# Altium integrated library ON Semi General Purpose Transistors.IntLib: 1679 symbols (part 30 of 36)
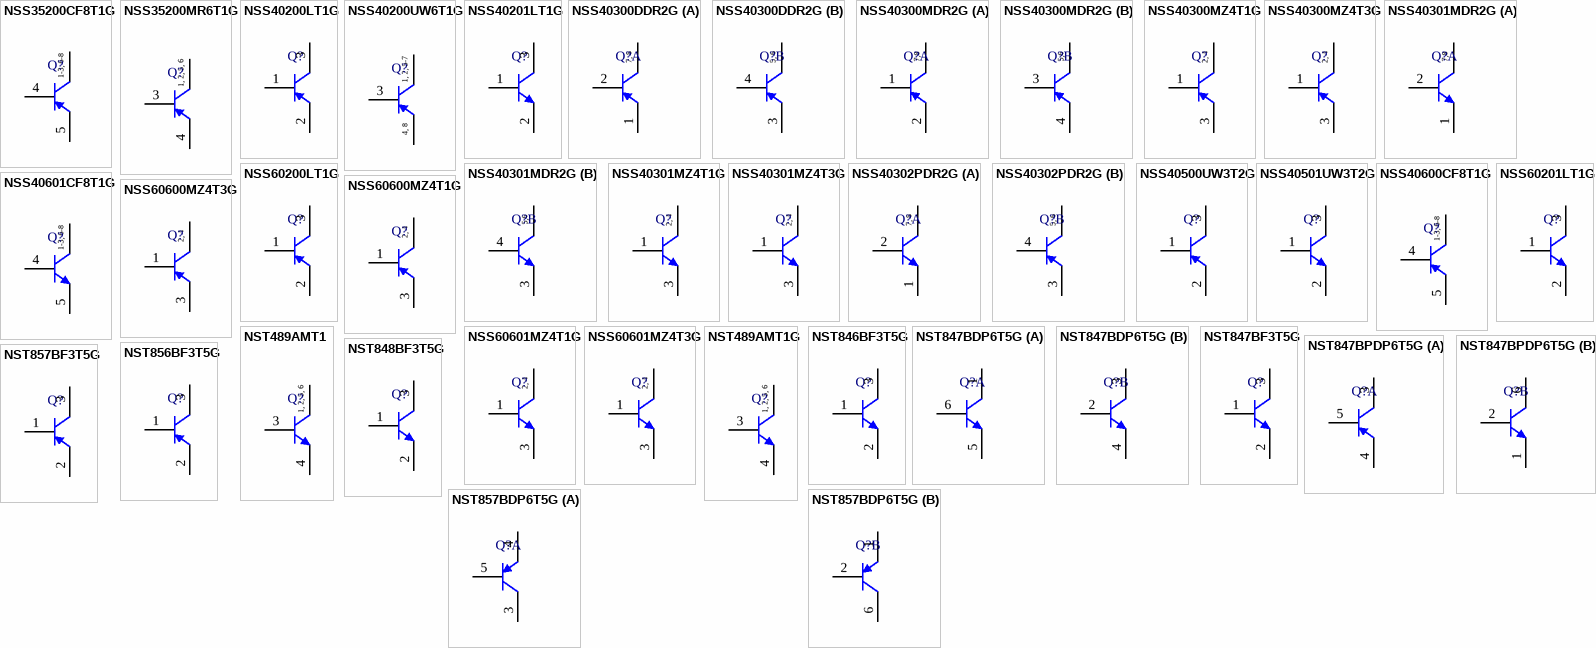
[diagram p74: symbols NSS35200CF8T1G to NST857BF3T5G]

## NSS40601CF8T1G
designator Q?
40 V, 8 A, Low VCE(sat), NPN Transistor, 8-Pin CHIPFET, Pb-Free, Tape and Reel; Manufacturer: On Semiconductor; PartNumber: NSS40601CF8T1G; fT Min (MHz): 140; IC Continuous (A): 6; DatasheetVersion: Rev. 1; PackageVersion: Rev. H, 10/2006; PackageReference: CHIPFET-8-1206A-03; PackageDescription: 8-Pin ChipFET, Body 3.025 x 1.625 mm, Pitch 0.65 mm; Supplier 1: Digi-Key; Supplier Part Number 1: NSS40601CF8T1GOSTR-ND; Supplier 2: Digi-Key; Supplier Part Number 2: NSS40601CF8T1GOSCT-ND; Supplier 3: Digi-Key; Supplier Part Number 3: NSS40601CF8T1GOSDKR-ND; Supplier 4: Newark; Supplier Part Number 4: 50M4400; Supplier 5: Mouser; Supplier Part Number 5: 863-NSS40601CF8T1G; Packing: Tape and Reel; Polarity: NPN; RoHS: TRUE; Mounting Technology: Surface Mount; ComponentLink1Description: Manufacturer URL; ComponentLink1URL: http://www.onsemi.com/; ComponentLink2Description: Datasheet; ComponentLink2URL: http://www.onsemi.com/pub_link/Collateral/NSS40601CF8-D.PDF; ComponentLink3Description: Package Specification; ComponentLink3URL: http://www.onsemi.cn/pub_link/Collateral/NSS12601CF8-D.PDF
footprint ONSC-CHIPFET-8-1206A-03_V (SON, 8-Leads, Body 3.026x1.626mm, Pitch 0.635mm)
pins: 1 C, 2 C, 3 C, 4 B, 5 E, 6 C, 7 C, 8 C
text: 1-3, 6-8

## NSS60200LT1G
designator Q?
60 V, 4 A, Low VCE(sat), PNP Transistor, 3-Pin SOT-23, Pb-Free, Tape and Reel; Manufacturer: On Semiconductor; PartNumber: NSS60200LT1G; fT Min (MHz): 100; IC Continuous (A): -2; DatasheetVersion: Rev. 1; PackageVersion: Rev. AP, 11/2009; PackageReference: SOT-23-3-318-08; PackageDescription: 3-Pin Small Outline Transistor, Body 2.92 x 1.3 mm, Pitch 0.95 mm; Supplier 1: Digi-Key; Supplier Part Number 1: NSS60200LT1GOSTR-ND; Supplier 2: Digi-Key; Supplier Part Number 2: NSS60200LT1GOSCT-ND; Supplier 3: Digi-Key; Supplier Part Number 3: NSS60200LT1GOSDKR-ND; Supplier 4: Farnell; Supplier Part Number 4: 2317570; Supplier 5: Newark; Supplier Part Number 5: 85W3180; Supplier 6: Newark; Supplier Part Number 6: 50M4401; Supplier 7: Mouser; Supplier Part Number 7: 863-NSS60200LT1G; Packing: Tape and Reel; Polarity: PNP; RoHS: TRUE; Mounting Technology: Surface Mount; ComponentLink1Description: Manufacturer URL; ComponentLink1URL: http://www.onsemi.com/; ComponentLink2Description: Datasheet; ComponentLink2URL: http://www.onsemi.com/pub_link/Collateral/NSS60200L-D.PDF; ComponentLink3Description: Package Specification; ComponentLink3URL: http://www.onsemi.cn/pub_link/Collateral/318-08.PDF
footprint ONSC-SOT-23-3-318-08_V (SOT23, 3-Leads, Body 2.92x1.3mm, Pitch 0.95mm)
pins: 1 B, 2 E, 3 C

## NSS60201LT1G
designator Q?
60 V, 4 A, Low VCE(sat), NPN Transistor, 3-Pin SOT-23, Pb-Free, Tape and Reel; Manufacturer: On Semiconductor; PartNumber: NSS60201LT1G; fT Min (MHz): 100; IC Continuous (A): 2; DatasheetVersion: Rev. 2; PackageVersion: Rev. AP, 11/2009; PackageReference: SOT-23-3-318-08; PackageDescription: 3-Pin Small Outline Transistor, Body 2.92 x 1.3 mm, Pitch 0.95 mm; Supplier 1: Digi-Key; Supplier Part Number 1: NSS60201LT1GOSTR-ND; Supplier 2: Digi-Key; Supplier Part Number 2: NSS60201LT1GOSCT-ND; Supplier 3: Digi-Key; Supplier Part Number 3: NSS60201LT1GOSDKR-ND; Supplier 4: Farnell; Supplier Part Number 4: 2317568; Supplier 5: Newark; Supplier Part Number 5: 85W3181; Supplier 6: Newark; Supplier Part Number 6: 75M5192; Supplier 7: Mouser; Supplier Part Number 7: 863-NSS60201LT1G; Packing: Tape and Reel; Polarity: NPN; RoHS: TRUE; Mounting Technology: Surface Mount; ComponentLink1Description: Manufacturer URL; ComponentLink1URL: http://www.onsemi.com/; ComponentLink2Description: Datasheet; ComponentLink2URL: http://www.onsemi.com/pub_link/Collateral/NSS60201L-D.PDF; ComponentLink3Description: Package Specification; ComponentLink3URL: http://www.onsemi.cn/pub_link/Collateral/318-08.PDF
footprint ONSC-SOT-23-3-318-08_V (SOT23, 3-Leads, Body 2.92x1.3mm, Pitch 0.95mm)
pins: 1 B, 2 E, 3 C

## NSS60600MZ4T1G
designator Q?
60 V, 6 A, Low VCE(sat), PNP Transistor, 4-Pin SOT-223, Pb-Free, Tape and Reel; Manufacturer: On Semiconductor; PartNumber: NSS60600MZ4T1G; fT Min (MHz): 100; IC Continuous (A): -6; DatasheetVersion: Rev. 4; PackageVersion: Rev. N, 08/2009; PackageReference: SOT-223-4-318E-04; PackageDescription: 4-Pin Small Outline Transistor, Body 6.5 x 3.5 mm, Pitch 2.3 mm; Supplier 1: Digi-Key; Supplier Part Number 1: NSS60600MZ4T1GOSTR-ND; Supplier 2: Digi-Key; Supplier Part Number 2: NSS60600MZ4T1GOSCT-ND; Supplier 3: Digi-Key; Supplier Part Number 3: NSS60600MZ4T1GOSDKR-ND; Supplier 4: Farnell; Supplier Part Number 4: 2317597; Supplier 5: Newark; Supplier Part Number 5: 90W9297; Supplier 6: Newark; Supplier Part Number 6: 50M4402; Supplier 7: Mouser; Supplier Part Number 7: 863-NSS60600MZ4T1G; Packing: Tape and Reel; Polarity: PNP; RoHS: TRUE; Mounting Technology: Surface Mount; ComponentLink1Description: Manufacturer URL; ComponentLink1URL: http://www.onsemi.com/; ComponentLink2Description: Datasheet; ComponentLink2URL: http://www.onsemi.com/pub_link/Collateral/NSS60600MZ4-D.PDF; ComponentLink3Description: Package Specification; ComponentLink3URL: http://www.onsemi.com/pub_link/Collateral/318E-04.PDF
footprint ONSC-SOT-223-4-318E-04_V (SOT223, 4-Leads, Body 6.5x3.5mm, Pitch 2.3mm)
pins: 1 B, 2 C, 3 E, 4 C
text: 2, 4

## NSS60600MZ4T3G
designator Q?
60 V, 6 A, Low VCE(sat), PNP Transistor, 4-Pin SOT-223, Pb-Free, Tape and Reel; Manufacturer: On Semiconductor; PartNumber: NSS60600MZ4T3G; fT Min (MHz): 100; IC Continuous (A): -6; DatasheetVersion: Rev. 4; PackageVersion: Rev. N, 08/2009; PackageReference: SOT-223-4-318E-04; PackageDescription: 4-Pin Small Outline Transistor, Body 6.5 x 3.5 mm, Pitch 2.3 mm; Supplier 1: Digi-Key; Supplier Part Number 1: NSS60600MZ4T3G-ND; Supplier 2: Mouser; Supplier Part Number 2: 863-NSS60600MZ4T3G; Packing: Tape and Reel; Polarity: PNP; RoHS: TRUE; Mounting Technology: Surface Mount; ComponentLink1Description: Manufacturer URL; ComponentLink1URL: http://www.onsemi.com/; ComponentLink2Description: Datasheet; ComponentLink2URL: http://www.onsemi.com/pub_link/Collateral/NSS60600MZ4-D.PDF; ComponentLink3Description: Package Specification; ComponentLink3URL: http://www.onsemi.com/pub_link/Collateral/318E-04.PDF
footprint ONSC-SOT-223-4-318E-04_V (SOT223, 4-Leads, Body 6.5x3.5mm, Pitch 2.3mm)
pins: 1 B, 2 C, 3 E, 4 C
text: 2, 4

## NSS60601MZ4T1G
designator Q?
60 V, 6 A, Low VCE(sat), NPN Transistor, 4-Pin SOT-223, Pb-Free, Tape and Reel; Manufacturer: On Semiconductor; PartNumber: NSS60601MZ4T1G; fT Min (MHz): 100; IC Continuous (A): 6; DatasheetVersion: Rev. 5; PackageVersion: Rev. N, 08/2009; PackageReference: SOT-223-4-318E-04; PackageDescription: 4-Pin Small Outline Transistor, Body 6.5 x 3.5 mm, Pitch 2.3 mm; Supplier 1: Digi-Key; Supplier Part Number 1: NSS60601MZ4T1GOSTR-ND; Supplier 2: Digi-Key; Supplier Part Number 2: NSS60601MZ4T1GOSCT-ND; Supplier 3: Digi-Key; Supplier Part Number 3: NSS60601MZ4T1GOSDKR-ND; Supplier 4: Newark; Supplier Part Number 4: 75M5193; Supplier 5: Mouser; Supplier Part Number 5: 863-NSS60601MZ4T1G; Packing: Tape and Reel; Polarity: NPN; RoHS: TRUE; Mounting Technology: Surface Mount; ComponentLink1Description: Manufacturer URL; ComponentLink1URL: http://www.onsemi.com/; ComponentLink2Description: Datasheet; ComponentLink2URL: http://www.onsemi.com/pub_link/Collateral/NSS60601MZ4-D.PDF; ComponentLink3Description: Package Specification; ComponentLink3URL: http://www.onsemi.com/pub_link/Collateral/318E-04.PDF
footprint ONSC-SOT-223-4-318E-04_V (SOT223, 4-Leads, Body 6.5x3.5mm, Pitch 2.3mm)
pins: 1 B, 2 C, 3 E, 4 C
text: 2, 4

## NSS60601MZ4T3G
designator Q?
60 V, 6 A, Low VCE(sat), NPN Transistor, 4-Pin SOT-223, Pb-Free, Tape and Reel; Manufacturer: On Semiconductor; PartNumber: NSS60601MZ4T3G; fT Min (MHz): 100; IC Continuous (A): 6; DatasheetVersion: Rev. 5; PackageVersion: Rev. N, 08/2009; PackageReference: SOT-223-4-318E-04; PackageDescription: 4-Pin Small Outline Transistor, Body 6.5 x 3.5 mm, Pitch 2.3 mm; Supplier 1: Digi-Key; Supplier Part Number 1: NSS60601MZ4T3G-ND; Supplier 2: Newark; Supplier Part Number 2: 75M5194; Supplier 3: Mouser; Supplier Part Number 3: 863-NSS60601MZ4T3G; Packing: Tape and Reel; Polarity: NPN; RoHS: TRUE; Mounting Technology: Surface Mount; ComponentLink1Description: Manufacturer URL; ComponentLink1URL: http://www.onsemi.com/; ComponentLink2Description: Datasheet; ComponentLink2URL: http://www.onsemi.com/pub_link/Collateral/NSS60601MZ4-D.PDF; ComponentLink3Description: Package Specification; ComponentLink3URL: http://www.onsemi.com/pub_link/Collateral/318E-04.PDF
footprint ONSC-SOT-223-4-318E-04_V (SOT223, 4-Leads, Body 6.5x3.5mm, Pitch 2.3mm)
pins: 1 B, 2 C, 3 E, 4 C
text: 2, 4

## NST489AMT1
designator Q?
High Current Surface Mount NPN Silicon Low VCE(sat), Switching Transistor for Load Management in Portable Application, 6-Pin TSOP, Tape and Reel; Manufacturer: On Semiconductor; PartNumber: NST489AMT1; fT Min (MHz): 200; IC Continuous (A): 2; DatasheetVersion: Rev. 8; PackageVersion: Rev. V, 06/2012; PackageReference: TSOP-6-318G-02; PackageDescription: 6-Pin Small Outline Package, Body 3 x 1.5 mm, Pitch 0.95 mm; Supplier 1: Digi-Key; Supplier Part Number 1: NST489AMT1-ND; Packing: Tape and Reel; Polarity: NPN; RoHS: FALSE; Mounting Technology: Surface Mount; ComponentLink1Description: Manufacturer URL; ComponentLink1URL: http://www.onsemi.com/; ComponentLink2Description: Datasheet; ComponentLink2URL: http://www.onsemi.com/pub_link/Collateral/NST489AMT1-D.PDF; ComponentLink3Description: Package Specification; ComponentLink3URL: http://www.onsemi.com/pub_link/Collateral/318G-02.PDF
footprint ONSC-TSOP-6-318G-02_V (SOP, 6-Leads, Body 3x1.5mm, Pitch 0.95mm)
pins: 1 C, 2 C, 3 B, 4 E, 5 C, 6 C
text: 1, 2, 5, 6

## NST489AMT1G
designator Q?
High Current Surface Mount NPN Silicon Low VCE(sat), Switching Transistor for Load Management in Portable Application, 6-Pin TSOP, Pb-Free, Tape and Reel; Manufacturer: On Semiconductor; PartNumber: NST489AMT1G; fT Min (MHz): 200; IC Continuous (A): 2; DatasheetVersion: Rev. 8; PackageVersion: Rev. V, 06/2012; PackageReference: TSOP-6-318G-02; PackageDescription: 6-Pin Small Outline Package, Body 3 x 1.5 mm, Pitch 0.95 mm; Supplier 1: Digi-Key; Supplier Part Number 1: NST489AMT1GOSTR-ND; Supplier 2: Digi-Key; Supplier Part Number 2: NST489AMT1GOSCT-ND; Supplier 3: Mouser; Supplier Part Number 3: 863-NST489AMT1G; Packing: Tape and Reel; Polarity: NPN; RoHS: TRUE; Mounting Technology: Surface Mount; ComponentLink1Description: Manufacturer URL; ComponentLink1URL: http://www.onsemi.com/; ComponentLink2Description: Datasheet; ComponentLink2URL: http://www.onsemi.com/pub_link/Collateral/NST489AMT1-D.PDF; ComponentLink3Description: Package Specification; ComponentLink3URL: http://www.onsemi.com/pub_link/Collateral/318G-02.PDF
footprint ONSC-TSOP-6-318G-02_V (SOP, 6-Leads, Body 3x1.5mm, Pitch 0.95mm)
pins: 1 C, 2 C, 3 B, 4 E, 5 C, 6 C
text: 1, 2, 5, 6

## NST846BF3T5G
designator Q?
NPN General Purpose Transistor, 3-Pin SOT-1123, Pb-Free, Tape and Reel; Manufacturer: On Semiconductor; PartNumber: NST846BF3T5G; fT Min (MHz): 100; IC Continuous (A): 0.1; DatasheetVersion: Rev. 1; PackageVersion: Rev. C, 11/2011; PackageReference: SOT-1123-3-524AA; PackageDescription: 3-Pin Small Outline Transistor, Body 0.8 x 0.6 mm, Pitch 0.375 mm; Supplier 1: Digi-Key; Supplier Part Number 1: NST846BF3T5G-ND; Supplier 2: Newark; Supplier Part Number 2: 05R9160; Supplier 3: Mouser; Supplier Part Number 3: 863-NST846BF3T5G; Packing: Tape and Reel; Polarity: NPN; RoHS: TRUE; Mounting Technology: Surface Mount; ComponentLink1Description: Manufacturer URL; ComponentLink1URL: http://www.onsemi.com/; ComponentLink2Description: Datasheet; ComponentLink2URL: http://www.onsemi.com/pub_link/Collateral/NST846BF3-D.PDF; ComponentLink3Description: Package Specification; ComponentLink3URL: http://www.onsemi.cn/pub_link/Collateral/524AA.PDF
footprint ONSC-SOT-1123-3-524AA_V (SOT223, 3-Leads, Body 0.8x0.6mm, Pitch 0.38mm)
pins: 1 B, 2 E, 3 C

## NST847BDP6T5G
designator Q?
Dual General Purpose Transistors, 6-Pin SOT-963, Pb-Free, Tape and Reel; Manufacturer: On Semiconductor; PartNumber: NST847BDP6T5G; fT Min (MHz): 100; IC Continuous (A): 0.1; Polarity: Dual NPN; DatasheetVersion: Rev. 0; PackageVersion: Rev. B, 04/2008; PackageReference: SOT-963-6-527AD-01_B; PackageDescription: 6-Pin SOT23, Body 1 x 0.8 mm, Pitch 0.35 mm; Supplier 1: Digi-Key; Supplier Part Number 1: NST847BDP6T5GOSTR-ND; Supplier 2: Digi-Key; Supplier Part Number 2: NST847BDP6T5GOSCT-ND; Supplier 3: Digi-Key; Supplier Part Number 3: NST847BDP6T5GOSDKR-ND; Supplier 4: Mouser; Supplier Part Number 4: 863-NST847BDP6T5G; Packing: Tape and Reel; RoHS: TRUE; Mounting Technology: Surface Mount; ComponentLink1Description: Manufacturer URL; ComponentLink1URL: http://www.onsemi.com/; ComponentLink2Description: Datasheet; ComponentLink2URL: http://www.onsemi.com/pub_link/Collateral/NST847BDP6-D.PDF; ComponentLink3Description: Package Specification; ComponentLink3URL: http://www.onsemi.com/pub_link/Collateral/NST847BDP6-D.PDF
footprint ONSC-SOT-963-6-527AD-01_B_V (SOT23, 6-Leads, Body 1.05x0.85mm, Pitch 0.35mm)
part A pins: 1 C, 5 E, 6 B
part B pins: 2 B, 3 C, 4 E

## NST847BF3T5G
designator Q?
NPN General Purpose Transistor, 3-Pin SOT-1123, Pb-Free, Tape and Reel; Manufacturer: On Semiconductor; PartNumber: NST847BF3T5G; fT Min (MHz): 100; IC Continuous (A): 0.1; DatasheetVersion: Rev. 1; PackageVersion: Rev. C, 11/2011; PackageReference: SOT-1123-3-524AA; PackageDescription: 3-Pin Small Outline Transistor, Body 0.8 x 0.6 mm, Pitch 0.375 mm; Supplier 1: Digi-Key; Supplier Part Number 1: NST847BF3T5GOSTR-ND; Supplier 2: Digi-Key; Supplier Part Number 2: NST847BF3T5GOSCT-ND; Supplier 3: Digi-Key; Supplier Part Number 3: NST847BF3T5GOSDKR-ND; Supplier 4: Mouser; Supplier Part Number 4: 863-NST847BF3T5G; Packing: Tape and Reel; Polarity: NPN; RoHS: TRUE; Mounting Technology: Surface Mount; ComponentLink1Description: Manufacturer URL; ComponentLink1URL: http://www.onsemi.com/; ComponentLink2Description: Datasheet; ComponentLink2URL: http://www.onsemi.com/pub_link/Collateral/NST847BF3-D.PDF; ComponentLink3Description: Package Specification; ComponentLink3URL: http://www.onsemi.cn/pub_link/Collateral/524AA.PDF
footprint ONSC-SOT-1123-3-524AA_V (SOT223, 3-Leads, Body 0.8x0.6mm, Pitch 0.38mm)
pins: 1 B, 2 E, 3 C

## NST847BPDP6T5G
designator Q?
Dual Complementary General Purpose Transistors, 6-Pin SOT-963, Pb-Free, Tape and Reel; Manufacturer: On Semiconductor; PartNumber: NST847BPDP6T5G; fT Min (MHz): 100; IC Continuous (A): 0.1; DatasheetVersion: Rev. 0; PackageVersion: Rev. B, 04/2008; PackageReference: SOT-963-6-527AD-01_B; PackageDescription: 6-Pin SOT23, Body 1 x 0.8 mm, Pitch 0.35 mm; Supplier 1: Digi-Key; Supplier Part Number 1: NST847BPDP6T5G-ND; Supplier 2: Newark; Supplier Part Number 2: 01P5117; Supplier 3: Mouser; Supplier Part Number 3: 863-NST847BPDP6T5G; Packing: Tape and Reel; Polarity: Complementary; RoHS: TRUE; Mounting Technology: Surface Mount; ComponentLink1Description: Manufacturer URL; ComponentLink1URL: http://www.onsemi.com/; ComponentLink2Description: Datasheet; ComponentLink2URL: http://www.onsemi.com/pub_link/Collateral/NST847BPDP6-D.PDF; ComponentLink3Description: Package Specification; ComponentLink3URL: http://www.onsemi.com/pub_link/Collateral/NST847BDP6-D.PDF
footprint ONSC-SOT-963-6-527AD-01_B_V (SOT23, 6-Leads, Body 1.05x0.85mm, Pitch 0.35mm)
part A pins: 3 C, 4 E, 5 B
part B pins: 1 E, 2 B, 6 C

## NST848BF3T5G
designator Q?
NPN General Purpose Transistor, 3-Pin SOT-1123, Pb-Free, Tape and Reel; Manufacturer: On Semiconductor; PartNumber: NST848BF3T5G; fT Min (MHz): 100; IC Continuous (A): 0.1; DatasheetVersion: Rev. 1; PackageVersion: Rev. C, 11/2011; PackageReference: SOT-1123-3-524AA; PackageDescription: 3-Pin Small Outline Transistor, Body 0.8 x 0.6 mm, Pitch 0.375 mm; Supplier 1: Digi-Key; Supplier Part Number 1: NST848BF3T5G-ND; Supplier 2: Newark; Supplier Part Number 2: 05R9161; Supplier 3: Mouser; Supplier Part Number 3: 863-NST848BF3T5G; Packing: Tape and Reel; Polarity: NPN; RoHS: TRUE; Mounting Technology: Surface Mount; ComponentLink1Description: Manufacturer URL; ComponentLink1URL: http://www.onsemi.com/; ComponentLink2Description: Datasheet; ComponentLink2URL: http://www.onsemi.com/pub_link/Collateral/NST848BF3-D.PDF; ComponentLink3Description: Package Specification; ComponentLink3URL: http://www.onsemi.cn/pub_link/Collateral/524AA.PDF
footprint ONSC-SOT-1123-3-524AA_V (SOT223, 3-Leads, Body 0.8x0.6mm, Pitch 0.38mm)
pins: 1 B, 2 E, 3 C

## NST856BF3T5G
designator Q?
PNP General Purpose Transistor, 3-Pin SOT-1123, Pb-Free, Tape and Reel; Manufacturer: On Semiconductor; PartNumber: NST856BF3T5G; fT Min (MHz): 100; IC Continuous (A): -0.1; DatasheetVersion: Rev. 1; PackageVersion: Rev. C, 11/2011; PackageReference: SOT-1123-3-524AA; PackageDescription: 3-Pin Small Outline Transistor, Body 0.8 x 0.6 mm, Pitch 0.375 mm; Supplier 1: Digi-Key; Supplier Part Number 1: NST856BF3T5G-ND; Supplier 2: Mouser; Supplier Part Number 2: 863-NST856BF3T5G; Packing: Tape and Reel; Polarity: PNP; RoHS: TRUE; Mounting Technology: Surface Mount; ComponentLink1Description: Manufacturer URL; ComponentLink1URL: http://www.onsemi.com/; ComponentLink2Description: Datasheet; ComponentLink2URL: http://www.onsemi.com/pub_link/Collateral/NST856BF3-D.PDF; ComponentLink3Description: Package Specification; ComponentLink3URL: http://www.onsemi.cn/pub_link/Collateral/524AA.PDF
footprint ONSC-SOT-1123-3-524AA_V (SOT223, 3-Leads, Body 0.8x0.6mm, Pitch 0.38mm)
pins: 1 B, 2 E, 3 C

## NST857BDP6T5G
designator Q?
Dual General Purpose Transistors, 6-Pin SOT-963, Pb-Free, Tape and Reel; Manufacturer: On Semiconductor; PartNumber: NST857BDP6T5G; fT Min (MHz): 100; IC Continuous (A): -0.1; Polarity: Dual PNP; DatasheetVersion: Rev. 0; PackageVersion: Rev. B, 04/2008; PackageReference: SOT-963-6-527AD-01_B; PackageDescription: 6-Pin SOT23, Body 1 x 0.8 mm, Pitch 0.35 mm; Supplier 1: Digi-Key; Supplier Part Number 1: NST857BDP6T5G-ND; Supplier 2: Newark; Supplier Part Number 2: 01P5118; Supplier 3: Mouser; Supplier Part Number 3: 863-NST857BDP6T5G; Packing: Tape and Reel; RoHS: TRUE; Mounting Technology: Surface Mount; ComponentLink1Description: Manufacturer URL; ComponentLink1URL: http://www.onsemi.com/; ComponentLink2Description: Datasheet; ComponentLink2URL: http://www.onsemi.com/pub_link/Collateral/NST857BDP6-D.PDF; ComponentLink3Description: Package Specification; ComponentLink3URL: http://www.onsemi.com/pub_link/Collateral/NST847BDP6-D.PDF
footprint ONSC-SOT-963-6-527AD-01_B_V (SOT23, 6-Leads, Body 1.05x0.85mm, Pitch 0.35mm)
part A pins: 3 C, 4 E, 5 B
part B pins: 1 E, 2 B, 6 C

## NST857BF3T5G
designator Q?
PNP General Purpose Transistor, 3-Pin SOT-1123, Pb-Free, Tape and Reel; Manufacturer: On Semiconductor; PartNumber: NST857BF3T5G; fT Min (MHz): 100; IC Continuous (A): -0.1; DatasheetVersion: Rev. 1; PackageVersion: Rev. C, 11/2011; PackageReference: SOT-1123-3-524AA; PackageDescription: 3-Pin Small Outline Transistor, Body 0.8 x 0.6 mm, Pitch 0.375 mm; Supplier 1: Digi-Key; Supplier Part Number 1: NST857BF3T5G-ND; Supplier 2: Mouser; Supplier Part Number 2: 863-NST857BF3T5G; Packing: Tape and Reel; Polarity: PNP; RoHS: TRUE; Mounting Technology: Surface Mount; ComponentLink1Description: Manufacturer URL; ComponentLink1URL: http://www.onsemi.com/; ComponentLink2Description: Datasheet; ComponentLink2URL: http://www.onsemi.com/pub_link/Collateral/NST857BF3-D.PDF; ComponentLink3Description: Package Specification; ComponentLink3URL: http://www.onsemi.cn/pub_link/Collateral/524AA.PDF
footprint ONSC-SOT-1123-3-524AA_V (SOT223, 3-Leads, Body 0.8x0.6mm, Pitch 0.38mm)
pins: 1 B, 2 E, 3 C

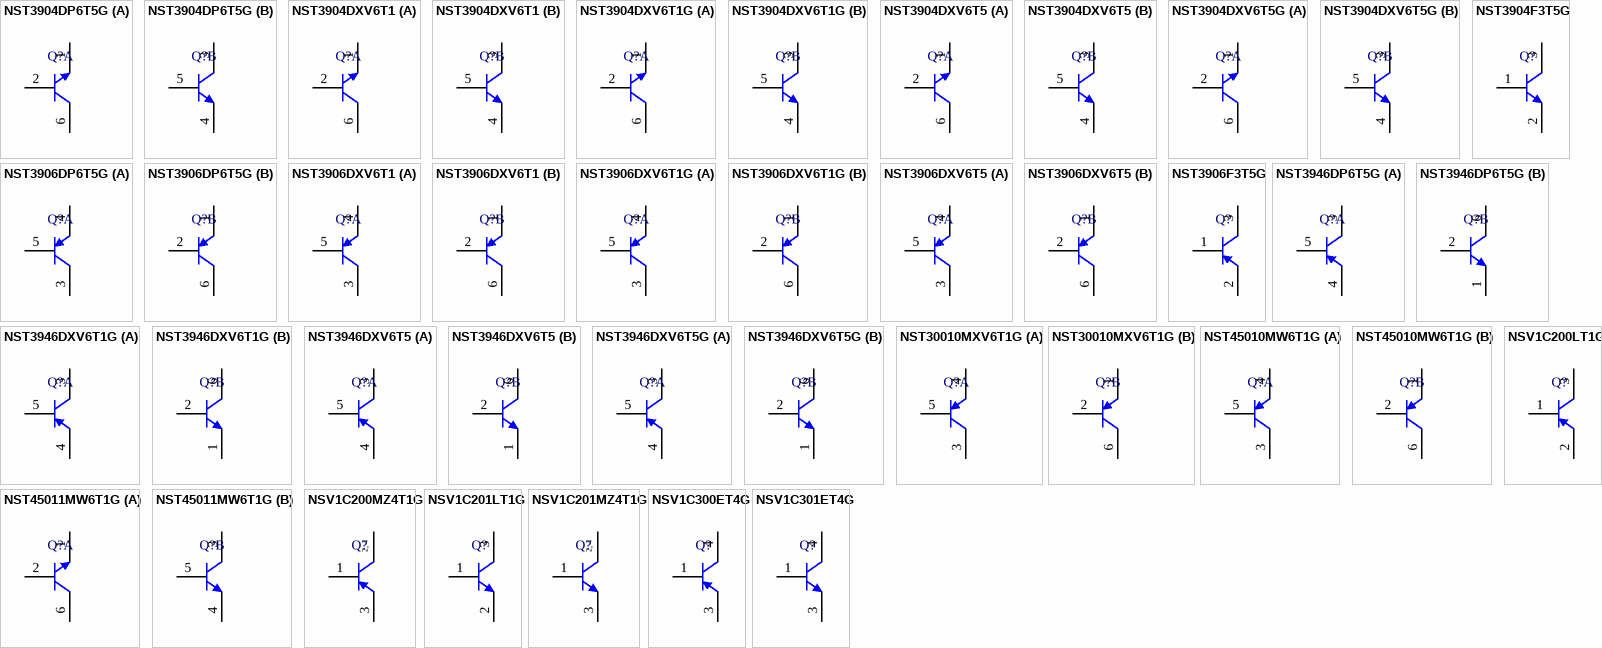
[diagram p37: symbols NST3904DP6T5G to NSV1C301ET4G]

## NST3904DP6T5G
designator Q?
Dual General Purpose Transistors, 6-Pin SOT-963, Pb-Free, Tape and Reel; Manufacturer: On Semiconductor; PartNumber: NST3904DP6T5G; fT Min (MHz): 200; IC Continuous (A): 0.2; Polarity: Dual NPN; DatasheetVersion: Rev. 0; PackageVersion: Rev. B, 04/2008; PackageReference: SOT-963-6-527AD-01_B; PackageDescription: 6-Pin SOT23, Body 1 x 0.8 mm, Pitch 0.35 mm; Supplier 1: Digi-Key; Supplier Part Number 1: NST3904DP6T5GOSTR-ND; Supplier 2: Digi-Key; Supplier Part Number 2: NST3904DP6T5GOSCT-ND; Supplier 3: Digi-Key; Supplier Part Number 3: NST3904DP6T5GOSDKR-ND; Supplier 4: Farnell; Supplier Part Number 4: 2317635; Supplier 5: Newark; Supplier Part Number 5: 73P9692; Supplier 6: Newark; Supplier Part Number 6: 01P5109; Supplier 7: Mouser; Supplier Part Number 7: 863-NST3904DP6T5G; Packing: Tape and Reel; RoHS: TRUE; Mounting Technology: Surface Mount; ComponentLink1Description: Manufacturer URL; ComponentLink1URL: http://www.onsemi.com/; ComponentLink2Description: Datasheet; ComponentLink2URL: http://www.onsemi.com/pub_link/Collateral/NST3904DP6-D.PDF; ComponentLink3Description: Package Specification; ComponentLink3URL: http://www.onsemi.com/pub_link/Collateral/NST847BDP6-D.PDF
footprint ONSC-SOT-963-6-527AD-01_B_V (SOT23, 6-Leads, Body 1.05x0.85mm, Pitch 0.35mm)
part A pins: 1 E, 2 B, 6 C
part B pins: 3 C, 4 E, 5 B

## NST3904DXV6T1
designator Q?
Dual General Purpose Transistors, 6-Pin SOT-563, Pb-Free, Tape and Reel; Manufacturer: On Semiconductor; PartNumber: NST3904DXV6T1; fT Min (MHz): 300; IC Continuous (A): 0.2; Polarity: Dual NPN; DatasheetVersion: Rev. 5; PackageVersion: Rev. F, 04/2005; PackageReference: SOT-563-6-463A-01; PackageDescription: 6-Pin Small Outline Transistor, Body 1.6 x 1.2 mm, Pitch 0.5 mm; Supplier 1: Mouser; Supplier Part Number 1: 863-NST3904DXV6T1; Packing: Tape and Reel; RoHS: TRUE; Mounting Technology: Surface Mount; ComponentLink1Description: Manufacturer URL; ComponentLink1URL: http://www.onsemi.com/; ComponentLink2Description: Datasheet; ComponentLink2URL: http://www.onsemi.com/pub_link/Collateral/NST3904DXV6T1-D.PDF; ComponentLink3Description: Package Specification; ComponentLink3URL: http://www.onsemi.cn/pub_link/Collateral/463A-01.PDF
footprint ONSC-SOT-563-6-463A-01_V (SOT23, 6-Leads, Body 1.6x1.2mm, Pitch 0.5mm)
part A pins: 1 E, 2 B, 6 C
part B pins: 3 C, 4 E, 5 B

## NST3904DXV6T1G
designator Q?
Dual General Purpose Transistors, 6-Pin SOT-563, Pb-Free, Tape and Reel; Manufacturer: On Semiconductor; PartNumber: NST3904DXV6T1G; fT Min (MHz): 300; IC Continuous (A): 0.2; Polarity: Dual NPN; DatasheetVersion: Rev. 5; PackageVersion: Rev. F, 04/2005; PackageReference: SOT-563-6-463A-01; PackageDescription: 6-Pin Small Outline Transistor, Body 1.6 x 1.2 mm, Pitch 0.5 mm; Supplier 1: Digi-Key; Supplier Part Number 1: NST3904DXV6T1GOSTR-ND; Supplier 2: Digi-Key; Supplier Part Number 2: NST3904DXV6T1GOSCT-ND; Supplier 3: Digi-Key; Supplier Part Number 3: NST3904DXV6T1GOSDKR-ND; Supplier 4: Newark; Supplier Part Number 4: 10N9564; Supplier 5: Newark; Supplier Part Number 5: 42K2376; Supplier 6: Mouser; Supplier Part Number 6: 863-NST3904DXV6T1G; Packing: Tape and Reel; RoHS: TRUE; Mounting Technology: Surface Mount; ComponentLink1Description: Manufacturer URL; ComponentLink1URL: http://www.onsemi.com/; ComponentLink2Description: Datasheet; ComponentLink2URL: http://www.onsemi.com/pub_link/Collateral/NST3904DXV6T1-D.PDF; ComponentLink3Description: Package Specification; ComponentLink3URL: http://www.onsemi.cn/pub_link/Collateral/463A-01.PDF
footprint ONSC-SOT-563-6-463A-01_V (SOT23, 6-Leads, Body 1.6x1.2mm, Pitch 0.5mm)
part A pins: 1 E, 2 B, 6 C
part B pins: 3 C, 4 E, 5 B

## NST3904DXV6T5
designator Q?
Dual General Purpose Transistors, 6-Pin SOT-563, Pb-Free, Tape and Reel; Manufacturer: On Semiconductor; PartNumber: NST3904DXV6T5; fT Min (MHz): 300; IC Continuous (A): 0.2; Polarity: Dual NPN; DatasheetVersion: Rev. 5; PackageVersion: Rev. F, 04/2005; PackageReference: SOT-563-6-463A-01; PackageDescription: 6-Pin Small Outline Transistor, Body 1.6 x 1.2 mm, Pitch 0.5 mm; Supplier 1: Digi-Key; Supplier Part Number 1: NST3904DXV6T5OS-ND; Supplier 2: Mouser; Supplier Part Number 2: 863-NST3904DXV6T5; Packing: Tape and Reel; RoHS: TRUE; Mounting Technology: Surface Mount; ComponentLink1Description: Manufacturer URL; ComponentLink1URL: http://www.onsemi.com/; ComponentLink2Description: Datasheet; ComponentLink2URL: http://www.onsemi.com/pub_link/Collateral/NST3904DXV6T1-D.PDF; ComponentLink3Description: Package Specification; ComponentLink3URL: http://www.onsemi.cn/pub_link/Collateral/463A-01.PDF
footprint ONSC-SOT-563-6-463A-01_V (SOT23, 6-Leads, Body 1.6x1.2mm, Pitch 0.5mm)
part A pins: 1 E, 2 B, 6 C
part B pins: 3 C, 4 E, 5 B

## NST3904DXV6T5G
designator Q?
Dual General Purpose Transistors, 6-Pin SOT-563, Pb-Free, Tape and Reel; Manufacturer: On Semiconductor; PartNumber: NST3904DXV6T5G; fT Min (MHz): 300; IC Continuous (A): 0.2; Polarity: Dual NPN; DatasheetVersion: Rev. 5; PackageVersion: Rev. F, 04/2005; PackageReference: SOT-563-6-463A-01; PackageDescription: 6-Pin Small Outline Transistor, Body 1.6 x 1.2 mm, Pitch 0.5 mm; Supplier 1: Digi-Key; Supplier Part Number 1: NST3904DXV6T5GOSTR-ND; Supplier 2: Digi-Key; Supplier Part Number 2: NST3904DXV6T5GOSCT-ND; Supplier 3: Mouser; Supplier Part Number 3: 863-NST3904DXV6T5G; Packing: Tape and Reel; RoHS: TRUE; Mounting Technology: Surface Mount; ComponentLink1Description: Manufacturer URL; ComponentLink1URL: http://www.onsemi.com/; ComponentLink2Description: Datasheet; ComponentLink2URL: http://www.onsemi.com/pub_link/Collateral/NST3904DXV6T1-D.PDF; ComponentLink3Description: Package Specification; ComponentLink3URL: http://www.onsemi.cn/pub_link/Collateral/463A-01.PDF
footprint ONSC-SOT-563-6-463A-01_V (SOT23, 6-Leads, Body 1.6x1.2mm, Pitch 0.5mm)
part A pins: 1 E, 2 B, 6 C
part B pins: 3 C, 4 E, 5 B

## NST3904F3T5G
designator Q?
NPN General Purpose Transistor, 3-Pin SOT-1123, Pb-Free, Tape and Reel; Manufacturer: On Semiconductor; PartNumber: NST3904F3T5G; fT Min (MHz): 200; IC Continuous (A): 0.2; DatasheetVersion: Rev. 1; PackageVersion: Rev. C, 11/2011; PackageReference: SOT-1123-3-524AA; PackageDescription: 3-Pin Small Outline Transistor, Body 0.8 x 0.6 mm, Pitch 0.375 mm; Supplier 1: Digi-Key; Supplier Part Number 1: NST3904F3T5GOSTR-ND; Supplier 2: Digi-Key; Supplier Part Number 2: NST3904F3T5GOSCT-ND; Supplier 3: Digi-Key; Supplier Part Number 3: NST3904F3T5GOSDKR-ND; Supplier 4: Farnell; Supplier Part Number 4: 2317544; Supplier 5: Newark; Supplier Part Number 5: 73P9693; Supplier 6: Newark; Supplier Part Number 6: 01P5110; Supplier 7: Mouser; Supplier Part Number 7: 863-NST3904F3T5G; Packing: Tape and Reel; Polarity: NPN; RoHS: TRUE; Mounting Technology: Surface Mount; ComponentLink1Description: Manufacturer URL; ComponentLink1URL: http://www.onsemi.com/; ComponentLink2Description: Datasheet; ComponentLink2URL: http://www.onsemi.com/pub_link/Collateral/NST3904F3-D.PDF; ComponentLink3Description: Package Specification; ComponentLink3URL: http://www.onsemi.cn/pub_link/Collateral/524AA.PDF
footprint ONSC-SOT-1123-3-524AA_V (SOT223, 3-Leads, Body 0.8x0.6mm, Pitch 0.38mm)
pins: 1 B, 2 E, 3 C

## NST3906DP6T5G
designator Q?
Dual General Purpose Transistors, 6-Pin SOT-963, Pb-Free, Tape and Reel; Manufacturer: On Semiconductor; PartNumber: NST3906DP6T5G; fT Min (MHz): 250; IC Continuous (A): -0.2; Polarity: Dual PNP; DatasheetVersion: Rev. 0; PackageVersion: Rev. B, 04/2008; PackageReference: SOT-963-6-527AD-01_B; PackageDescription: 6-Pin SOT23, Body 1 x 0.8 mm, Pitch 0.35 mm; Supplier 1: Digi-Key; Supplier Part Number 1: NST3906DP6T5GOSTR-ND; Supplier 2: Digi-Key; Supplier Part Number 2: NST3906DP6T5GOSCT-ND; Supplier 3: Digi-Key; Supplier Part Number 3: NST3906DP6T5GOSDKR-ND; Supplier 4: Newark; Supplier Part Number 4: 01P5111; Supplier 5: Mouser; Supplier Part Number 5: 863-NST3906DP6T5G; Packing: Tape and Reel; RoHS: TRUE; Mounting Technology: Surface Mount; ComponentLink1Description: Manufacturer URL; ComponentLink1URL: http://www.onsemi.com/; ComponentLink2Description: Datasheet; ComponentLink2URL: http://www.onsemi.com/pub_link/Collateral/NST3906DP6-D.PDF; ComponentLink3Description: Package Specification; ComponentLink3URL: http://www.onsemi.com/pub_link/Collateral/NST847BDP6-D.PDF
footprint ONSC-SOT-963-6-527AD-01_B_V (SOT23, 6-Leads, Body 1.05x0.85mm, Pitch 0.35mm)
part A pins: 3 C, 4 E, 5 B
part B pins: 1 E, 2 B, 6 C

## NST3906DXV6T1
designator Q?
Dual General Purpose Transistors, 6-Pin SOT-563, Pb-Free, Tape and Reel; Manufacturer: On Semiconductor; PartNumber: NST3906DXV6T1; fT Min (MHz): 250; IC Continuous (A): -0.2; Polarity: Dual PNP; DatasheetVersion: Rev. 0; PackageVersion: Rev. O; PackageReference: SOT-563-6-463A-01_O; PackageDescription: 6-Pin SOT23, Body 1.2 x 1.6 mm, Pitch 0.5 mm; Supplier 1: Digi-Key; Supplier Part Number 1: NST3906DXV6T1OS-ND; Supplier 2: Mouser; Supplier Part Number 2: 863-NST3906DXV6T1; Packing: Tape and Reel; RoHS: TRUE; Mounting Technology: Surface Mount; ComponentLink1Description: Manufacturer URL; ComponentLink1URL: http://www.onsemi.com/; ComponentLink2Description: Datasheet; ComponentLink2URL: http://www.onsemi.com/pub_link/Collateral/NST3906DXV6T1-D.PDF; ComponentLink3Description: Package Specification; ComponentLink3URL: http://www.onsemi.com/pub_link/Collateral/NST3906DXV6T1-D.PDF
footprint ONSC-SOT-563-6-463A-01_O_V (SOT23, 6-Leads, Body 1.6x1.2mm, Pitch 0.5mm)
part A pins: 3 C, 4 E, 5 B
part B pins: 1 E, 2 B, 6 C

## NST3906DXV6T1G
designator Q?
Dual General Purpose Transistors, 6-Pin SOT-563, Pb-Free, Tape and Reel; Manufacturer: On Semiconductor; PartNumber: NST3906DXV6T1G; fT Min (MHz): 250; IC Continuous (A): -0.2; Polarity: Dual PNP; DatasheetVersion: Rev. 0; PackageVersion: Rev. O; PackageReference: SOT-563-6-463A-01_O; PackageDescription: 6-Pin SOT23, Body 1.2 x 1.6 mm, Pitch 0.5 mm; Supplier 1: Digi-Key; Supplier Part Number 1: NST3906DXV6T1GOSTR-ND; Supplier 2: Digi-Key; Supplier Part Number 2: NST3906DXV6T1GOSCT-ND; Supplier 3: Newark; Supplier Part Number 3: 42K2378; Supplier 4: Mouser; Supplier Part Number 4: 863-NST3906DXV6T1G; Packing: Tape and Reel; RoHS: TRUE; Mounting Technology: Surface Mount; ComponentLink1Description: Manufacturer URL; ComponentLink1URL: http://www.onsemi.com/; ComponentLink2Description: Datasheet; ComponentLink2URL: http://www.onsemi.com/pub_link/Collateral/NST3906DXV6T1-D.PDF; ComponentLink3Description: Package Specification; ComponentLink3URL: http://www.onsemi.com/pub_link/Collateral/NST3906DXV6T1-D.PDF
footprint ONSC-SOT-563-6-463A-01_O_V (SOT23, 6-Leads, Body 1.6x1.2mm, Pitch 0.5mm)
part A pins: 3 C, 4 E, 5 B
part B pins: 1 E, 2 B, 6 C

## NST3906DXV6T5
designator Q?
Dual General Purpose Transistors, 6-Pin SOT-563, Pb-Free, Tape and Reel; Manufacturer: On Semiconductor; PartNumber: NST3906DXV6T5; fT Min (MHz): 250; IC Continuous (A): -0.2; Polarity: Dual PNP; DatasheetVersion: Rev. 0; PackageVersion: Rev. O; PackageReference: SOT-563-6-463A-01_O; PackageDescription: 6-Pin SOT23, Body 1.2 x 1.6 mm, Pitch 0.5 mm; Supplier 1: Mouser; Supplier Part Number 1: 863-NST3906DXV6T5; Packing: Tape and Reel; RoHS: TRUE; Mounting Technology: Surface Mount; ComponentLink1Description: Manufacturer URL; ComponentLink1URL: http://www.onsemi.com/; ComponentLink2Description: Datasheet; ComponentLink2URL: http://www.onsemi.com/pub_link/Collateral/NST3906DXV6T1-D.PDF; ComponentLink3Description: Package Specification; ComponentLink3URL: http://www.onsemi.com/pub_link/Collateral/NST3906DXV6T1-D.PDF
footprint ONSC-SOT-563-6-463A-01_O_V (SOT23, 6-Leads, Body 1.6x1.2mm, Pitch 0.5mm)
part A pins: 3 C, 4 E, 5 B
part B pins: 1 E, 2 B, 6 C

## NST3906F3T5G
designator Q?
PNP General Purpose Transistor, 3-Pin SOT-1123, Pb-Free, Tape and Reel; Manufacturer: On Semiconductor; PartNumber: NST3906F3T5G; fT Min (MHz): 250; IC Continuous (A): -0.2; DatasheetVersion: Rev. 1; PackageVersion: Rev. C, 11/2011; PackageReference: SOT-1123-3-524AA; PackageDescription: 3-Pin Small Outline Transistor, Body 0.8 x 0.6 mm, Pitch 0.375 mm; Supplier 1: Digi-Key; Supplier Part Number 1: NST3906F3T5GOSTR-ND; Supplier 2: Digi-Key; Supplier Part Number 2: NST3906F3T5GOSCT-ND; Supplier 3: Digi-Key; Supplier Part Number 3: NST3906F3T5GOSDKR-ND; Supplier 4: Newark; Supplier Part Number 4: 01P5112; Supplier 5: Mouser; Supplier Part Number 5: 863-NST3906F3T5G; Packing: Tape and Reel; Polarity: PNP; RoHS: TRUE; Mounting Technology: Surface Mount; ComponentLink1Description: Manufacturer URL; ComponentLink1URL: http://www.onsemi.com/; ComponentLink2Description: Datasheet; ComponentLink2URL: http://www.onsemi.com/pub_link/Collateral/NST3906F3-D.PDF; ComponentLink3Description: Package Specification; ComponentLink3URL: http://www.onsemi.cn/pub_link/Collateral/524AA.PDF
footprint ONSC-SOT-1123-3-524AA_V (SOT223, 3-Leads, Body 0.8x0.6mm, Pitch 0.38mm)
pins: 1 B, 2 E, 3 C

## NST3946DP6T5G
designator Q?
Dual Complementary General Purpose Transistors, 6-Pin SOT-963, Pb-Free, Tape and Reel; Manufacturer: On Semiconductor; PartNumber: NST3946DP6T5G; IC Continuous (A): 0.2; DatasheetVersion: Rev. 1; PackageVersion: Rev. B, 04/2008; PackageReference: SOT-963-6-527AD-01_B; PackageDescription: 6-Pin SOT23, Body 1 x 0.8 mm, Pitch 0.35 mm; Supplier 1: Digi-Key; Supplier Part Number 1: NST3946DP6T5G-ND; Supplier 2: Mouser; Supplier Part Number 2: 863-NST3946DP6T5G; Packing: Tape and Reel; Polarity: Complementary; RoHS: TRUE; Mounting Technology: Surface Mount; ComponentLink1Description: Manufacturer URL; ComponentLink1URL: http://www.onsemi.com/; ComponentLink2Description: Datasheet; ComponentLink2URL: http://www.onsemi.com/pub_link/Collateral/NST3946DP6-D.PDF; ComponentLink3Description: Package Specification; ComponentLink3URL: http://www.onsemi.com/pub_link/Collateral/NST847BDP6-D.PDF
footprint ONSC-SOT-963-6-527AD-01_B_V (SOT23, 6-Leads, Body 1.05x0.85mm, Pitch 0.35mm)
part A pins: 3 C, 4 E, 5 B
part B pins: 1 E, 2 B, 6 C

## NST3946DXV6T1G
designator Q?
Complementary General Purpose Transistors, 6-Pin SOT-563, Pb-Free, Tape and Reel; Manufacturer: On Semiconductor; PartNumber: NST3946DXV6T1G; IC Continuous (A): 0.2; DatasheetVersion: Rev. 2; PackageVersion: Rev. F, 04/2005; PackageReference: SOT-563-6-463A-01; PackageDescription: 6-Pin Small Outline Transistor, Body 1.6 x 1.2 mm, Pitch 0.5 mm; Supplier 1: Digi-Key; Supplier Part Number 1: NST3946DXV6T1GOSTR-ND; Supplier 2: Digi-Key; Supplier Part Number 2: NST3946DXV6T1GOSCT-ND; Supplier 3: Digi-Key; Supplier Part Number 3: NST3946DXV6T1GOSDKR-ND; Supplier 4: Mouser; Supplier Part Number 4: 863-NST3946DXV6T1G; Packing: Tape and Reel; Polarity: Complementary; RoHS: TRUE; Mounting Technology: Surface Mount; ComponentLink1Description: Manufacturer URL; ComponentLink1URL: http://www.onsemi.com/; ComponentLink2Description: Datasheet; ComponentLink2URL: http://www.onsemi.com/pub_link/Collateral/NST3946DXV6T1-D.PDF; ComponentLink3Description: Package Specification; ComponentLink3URL: http://www.onsemi.cn/pub_link/Collateral/463A-01.PDF
footprint ONSC-SOT-563-6-463A-01_V (SOT23, 6-Leads, Body 1.6x1.2mm, Pitch 0.5mm)
part A pins: 3 C, 4 E, 5 B
part B pins: 1 E, 2 B, 6 C

## NST3946DXV6T5
designator Q?
Complementary General Purpose Transistors, 6-Pin SOT-563, Pb-Free, Tape and Reel; Manufacturer: On Semiconductor; PartNumber: NST3946DXV6T5; IC Continuous (A): 0.2; DatasheetVersion: Rev. 2; PackageVersion: Rev. F, 04/2005; PackageReference: SOT-563-6-463A-01; PackageDescription: 6-Pin Small Outline Transistor, Body 1.6 x 1.2 mm, Pitch 0.5 mm; Supplier 1: Digi-Key; Supplier Part Number 1: NST3946DXV6T5OS-ND; Supplier 2: Mouser; Supplier Part Number 2: 863-NST3946DXV6T5; Packing: Tape and Reel; Polarity: Complementary; RoHS: TRUE; Mounting Technology: Surface Mount; ComponentLink1Description: Manufacturer URL; ComponentLink1URL: http://www.onsemi.com/; ComponentLink2Description: Datasheet; ComponentLink2URL: http://www.onsemi.com/pub_link/Collateral/NST3946DXV6T1-D.PDF; ComponentLink3Description: Package Specification; ComponentLink3URL: http://www.onsemi.cn/pub_link/Collateral/463A-01.PDF
footprint ONSC-SOT-563-6-463A-01_V (SOT23, 6-Leads, Body 1.6x1.2mm, Pitch 0.5mm)
part A pins: 3 C, 4 E, 5 B
part B pins: 1 E, 2 B, 6 C

## NST3946DXV6T5G
designator Q?
Complementary General Purpose Transistors, 6-Pin SOT-563, Pb-Free, Tape and Reel; Manufacturer: On Semiconductor; PartNumber: NST3946DXV6T5G; IC Continuous (A): 0.2; DatasheetVersion: Rev. 2; PackageVersion: Rev. F, 04/2005; PackageReference: SOT-563-6-463A-01; PackageDescription: 6-Pin Small Outline Transistor, Body 1.6 x 1.2 mm, Pitch 0.5 mm; Supplier 1: Digi-Key; Supplier Part Number 1: NST3946DXV6T5GOSTR-ND; Supplier 2: Digi-Key; Supplier Part Number 2: NST3946DXV6T5GOSCT-ND; Supplier 3: Mouser; Supplier Part Number 3: 863-NST3946DXV6T5G; Packing: Tape and Reel; Polarity: Complementary; RoHS: TRUE; Mounting Technology: Surface Mount; ComponentLink1Description: Manufacturer URL; ComponentLink1URL: http://www.onsemi.com/; ComponentLink2Description: Datasheet; ComponentLink2URL: http://www.onsemi.com/pub_link/Collateral/NST3946DXV6T1-D.PDF; ComponentLink3Description: Package Specification; ComponentLink3URL: http://www.onsemi.cn/pub_link/Collateral/463A-01.PDF
footprint ONSC-SOT-563-6-463A-01_V (SOT23, 6-Leads, Body 1.6x1.2mm, Pitch 0.5mm)
part A pins: 3 C, 4 E, 5 B
part B pins: 1 E, 2 B, 6 C

## NST30010MXV6T1G
designator Q?
Dual Matched General Purpose Transistors, PNP Matched Pair, 6-Pin SOT-563, Pb-Free, Tape and Reel; Manufacturer: On Semiconductor; PartNumber: NST30010MXV6T1G; fT Min (MHz): 100; IC Continuous (A): -0.1; Polarity: Dual PNP; DatasheetVersion: Rev. 1; PackageVersion: Rev. F, 04/2005; PackageReference: SOT-563-6-463A-01; PackageDescription: 6-Pin Small Outline Transistor, Body 1.6 x 1.2 mm, Pitch 0.5 mm; Supplier 1: Digi-Key; Supplier Part Number 1: NST30010MXV6T1GOSTR-ND; Supplier 2: Digi-Key; Supplier Part Number 2: NST30010MXV6T1GOSCT-ND; Supplier 3: Digi-Key; Supplier Part Number 3: NST30010MXV6T1GOSDKR-ND; Supplier 4: Newark; Supplier Part Number 4: 34M7851; Supplier 5: Mouser; Supplier Part Number 5: 863-NST30010MXV6T1G; Packing: Tape and Reel; RoHS: TRUE; Mounting Technology: Surface Mount; ComponentLink1Description: Manufacturer URL; ComponentLink1URL: http://www.onsemi.com/; ComponentLink2Description: Datasheet; ComponentLink2URL: http://www.onsemi.com/pub_link/Collateral/NST30010MXV6-D.PDF; ComponentLink3Description: Package Specification; ComponentLink3URL: http://www.onsemi.cn/pub_link/Collateral/463A-01.PDF
footprint ONSC-SOT-563-6-463A-01_V (SOT23, 6-Leads, Body 1.6x1.2mm, Pitch 0.5mm)
part A pins: 3 C, 4 E, 5 B
part B pins: 1 E, 2 B, 6 C

## NST45010MW6T1G
designator Q?
Dual Matched General Purpose Transistors, PNP Matched Pair, 6-Pin SOT-363, Pb-Free, Tape and Reel; Manufacturer: On Semiconductor; PartNumber: NST45010MW6T1G; fT Min (MHz): 100; IC Continuous (A): -0.1; Polarity: Dual PNP; DatasheetVersion: Rev. 2; PackageVersion: Rev. W, 01/2006; PackageReference: SOT-363-6-419B-02_W; PackageDescription: 6-Pin Small Outline Transistor, Body 2 x 1.25 mm, Pitch 0.65 mm; Supplier 1: Digi-Key; Supplier Part Number 1: NST45010MW6T1GOSTR-ND; Supplier 2: Digi-Key; Supplier Part Number 2: NST45010MW6T1GOSCT-ND; Supplier 3: Digi-Key; Supplier Part Number 3: NST45010MW6T1GOSDKR-ND; Supplier 4: Newark; Supplier Part Number 4: 05R9159; Supplier 5: Mouser; Supplier Part Number 5: 863-NST45010MW6T1G; Packing: Tape and Reel; RoHS: TRUE; Mounting Technology: Surface Mount; ComponentLink1Description: Manufacturer URL; ComponentLink1URL: http://www.onsemi.com/; ComponentLink2Description: Datasheet; ComponentLink2URL: http://www.onsemi.com/pub_link/Collateral/NST45010MW6-D.PDF; ComponentLink3Description: Package Specification; ComponentLink3URL: http://www.onsemi.com/pub_link/Collateral/NTJD4001N-D.PDF
footprint ONSC-SOT-363-6-419B-02_W_V (SOT23, 6-Leads, Body 2x1.25mm, Pitch 0.65mm)
part A pins: 3 C, 4 E, 5 B
part B pins: 1 E, 2 B, 6 C

## NST45011MW6T1G
designator Q?
Dual Matched General Purpose Transistors, NPN Matched Pair, 6-Pin SOT-363, Pb-Free, Tape and Reel; Manufacturer: On Semiconductor; PartNumber: NST45011MW6T1G; fT Min (MHz): 100; IC Continuous (A): 0.1; Polarity: Dual NPN; DatasheetVersion: Rev. 4; PackageVersion: Rev. W, 01/2006; PackageReference: SOT-363-6-419B-02_W; PackageDescription: 6-Pin Small Outline Transistor, Body 2 x 1.25 mm, Pitch 0.65 mm; Supplier 1: Digi-Key; Supplier Part Number 1: NST45011MW6T1GOSTR-ND; Supplier 2: Digi-Key; Supplier Part Number 2: NST45011MW6T1GOSCT-ND; Supplier 3: Digi-Key; Supplier Part Number 3: NST45011MW6T1GOSDKR-ND; Supplier 4: Newark; Supplier Part Number 4: 01P5114; Supplier 5: Mouser; Supplier Part Number 5: 863-NST45011MW6T1G; Packing: Tape and Reel; RoHS: TRUE; Mounting Technology: Surface Mount; ComponentLink1Description: Manufacturer URL; ComponentLink1URL: http://www.onsemi.com/; ComponentLink2Description: Datasheet; ComponentLink2URL: http://www.onsemi.com/pub_link/Collateral/NST45011MW6-D.PDF; ComponentLink3Description: Package Specification; ComponentLink3URL: http://www.onsemi.com/pub_link/Collateral/NTJD4001N-D.PDF
footprint ONSC-SOT-363-6-419B-02_W_V (SOT23, 6-Leads, Body 2x1.25mm, Pitch 0.65mm)
part A pins: 1 E, 2 B, 6 C
part B pins: 3 C, 4 E, 5 B

## NSV1C200LT1G
designator Q?
100 V, 3 A, Low VCE(sat), PNP Transistor, 3-Pin SOT-23, Pb-Free, Tape and Reel; Manufacturer: On Semiconductor; PartNumber: NSV1C200LT1G; Note: 0; IC Continuous (A): -2; DatasheetVersion: Rev. 2; PackageVersion: Rev. AP, 11/2009; PackageReference: SOT-23-3-318-08; PackageDescription: 3-Pin Small Outline Transistor, Body 2.92 x 1.3 mm, Pitch 0.95 mm; Packing: Tape and Reel; Polarity: PNP; RoHS: TRUE; Mounting Technology: Surface Mount; ComponentLink1Description: Manufacturer URL; ComponentLink1URL: http://www.onsemi.com/; ComponentLink2Description: Datasheet; ComponentLink2URL: http://www.onsemi.cn/pub_link/Collateral/NSS1C200L-D.PDF; ComponentLink3Description: Package Specification; ComponentLink3URL: http://www.onsemi.cn/pub_link/Collateral/318-08.PDF
footprint ONSC-SOT-23-3-318-08_V (SOT23, 3-Leads, Body 2.92x1.3mm, Pitch 0.95mm)
pins: 1 B, 2 E, 3 C

## NSV1C200MZ4T1G
designator Q?
100 V, 2 A, Low VCE(sat), PNP Transistor, 4-Pin SOT-223, Pb-Free, Tape and Reel; Manufacturer: On Semiconductor; PartNumber: NSV1C200MZ4T1G; Note: 0; IC Continuous (A): 2; DatasheetVersion: Rev. 5; PackageVersion: Rev. N, 08/2009; PackageReference: SOT-223-4-318E-04; PackageDescription: 4-Pin Small Outline Transistor, Body 6.5 x 3.5 mm, Pitch 2.3 mm; Packing: Tape and Reel; Polarity: PNP; RoHS: TRUE; Mounting Technology: Surface Mount; ComponentLink1Description: Manufacturer URL; ComponentLink1URL: http://www.onsemi.com/; ComponentLink2Description: Datasheet; ComponentLink2URL: http://www.onsemi.cn/pub_link/Collateral/NSS1C200MZ4-D.PDF; ComponentLink3Description: Package Specification; ComponentLink3URL: http://www.onsemi.com/pub_link/Collateral/318E-04.PDF
footprint ONSC-SOT-223-4-318E-04_V (SOT223, 4-Leads, Body 6.5x3.5mm, Pitch 2.3mm)
pins: 1 B, 2 C, 3 E, 4 C
text: 2, 4

## NSV1C201LT1G
designator Q?
100 V, 3 A, Low VCE(sat), NPN Transistor, 3-Pin SOT-23, Pb-Free, Tape and Reel; Manufacturer: On Semiconductor; PartNumber: NSV1C201LT1G; Note: 0; IC Continuous (A): 2; DatasheetVersion: Rev. 3; PackageVersion: Rev. AP, 11/2009; PackageReference: SOT-23-3-318-08; PackageDescription: 3-Pin Small Outline Transistor, Body 2.92 x 1.3 mm, Pitch 0.95 mm; Packing: Tape and Reel; Polarity: NPN; RoHS: TRUE; Mounting Technology: Surface Mount; ComponentLink1Description: Manufacturer URL; ComponentLink1URL: http://www.onsemi.com/; ComponentLink2Description: Datasheet; ComponentLink2URL: http://www.onsemi.cn/pub_link/Collateral/NSS1C201L.PDF; ComponentLink3Description: Package Specification; ComponentLink3URL: http://www.onsemi.cn/pub_link/Collateral/318-08.PDF
footprint ONSC-SOT-23-3-318-08_V (SOT23, 3-Leads, Body 2.92x1.3mm, Pitch 0.95mm)
pins: 1 B, 2 E, 3 C

## NSV1C201MZ4T1G
designator Q?
100 V, 2 A, Low VCE(sat), NPN Transistor, 4-Pin SOT-223, Pb-Free, Tape and Reel; Manufacturer: On Semiconductor; PartNumber: NSV1C201MZ4T1G; Note: 0; IC Continuous (A): 2; DatasheetVersion: Rev. 4; PackageVersion: Rev. N, 08/2009; PackageReference: SOT-223-4-318E-04; PackageDescription: 4-Pin Small Outline Transistor, Body 6.5 x 3.5 mm, Pitch 2.3 mm; Packing: Tape and Reel; Polarity: NPN; RoHS: TRUE; Mounting Technology: Surface Mount; ComponentLink1Description: Manufacturer URL; ComponentLink1URL: http://www.onsemi.com/; ComponentLink2Description: Datasheet; ComponentLink2URL: http://www.onsemi.cn/pub_link/Collateral/NSS1C201MZ4-D.PDF; ComponentLink3Description: Package Specification; ComponentLink3URL: http://www.onsemi.com/pub_link/Collateral/318E-04.PDF
footprint ONSC-SOT-223-4-318E-04_V (SOT223, 4-Leads, Body 6.5x3.5mm, Pitch 2.3mm)
pins: 1 B, 2 C, 3 E, 4 C
text: 2, 4

## NSV1C300ET4G
designator Q?
100 V, 3 A, Low VCE(sat), PNP Transistor, 3-Pin DPAK, Pb-Free, Tape and Reel; Manufacturer: On Semiconductor; PartNumber: NSV1C300ET4G; IC Continuous (A): 3; DatasheetVersion: Rev. 6; PackageVersion: Rev. E, 02/2014; PackageReference: DPAK-3-369C-01; PackageDescription: 3-Pin Flange Mount, Body 6.54 x 6.095 mm, Pitch 2.29 mm; Supplier 1: Newark; Supplier Part Number 1: 60W1780; Supplier 2: Mouser; Supplier Part Number 2: 863-NSV1C300ET4G; Packing: Tape and Reel; Polarity: PNP; RoHS: TRUE; Mounting Technology: Surface Mount; ComponentLink1Description: Manufacturer URL; ComponentLink1URL: http://www.onsemi.com/; ComponentLink2Description: Datasheet; ComponentLink2URL: http://www.onsemi.cn/pub_link/Collateral/NSS1C300E-D.PDF; ComponentLink3Description: Package Specification; ComponentLink3URL: http://www.onsemi.cn/pub_link/Collateral/369C.PDF
footprint ONSC-DPAK-3-369C-01_V (DPAK, 3-Leads, Body 6.54x6.095mm, Pitch 2.29mm)
pins: 1 B, 3 E, 4 C

## NSV1C301ET4G
designator Q?
100 V, 3 A, Low VCE(sat), NPN Transistor, 3-Pin DPAK, Pb-Free, Tape and Reel; Manufacturer: On Semiconductor; PartNumber: NSV1C301ET4G; IC Continuous (A): 3; DatasheetVersion: Rev. 3; PackageVersion: Rev. E, 02/2014; PackageReference: DPAK-3-369C-01; PackageDescription: 3-Pin Flange Mount, Body 6.54 x 6.095 mm, Pitch 2.29 mm; Supplier 1: Newark; Supplier Part Number 1: 60W1781; Supplier 2: Mouser; Supplier Part Number 2: 863-NSV1C301ET4G; Packing: Tape and Reel; Polarity: NPN; RoHS: TRUE; Mounting Technology: Surface Mount; ComponentLink1Description: Manufacturer URL; ComponentLink1URL: http://www.onsemi.com/; ComponentLink2Description: Datasheet; ComponentLink2URL: http://www.onsemi.cn/pub_link/Collateral/NSS1C301E-D.PDF; ComponentLink3Description: Package Specification; ComponentLink3URL: http://www.onsemi.cn/pub_link/Collateral/369C.PDF
footprint ONSC-DPAK-3-369C-01_V (DPAK, 3-Leads, Body 6.54x6.095mm, Pitch 2.29mm)
pins: 1 B, 3 E, 4 C

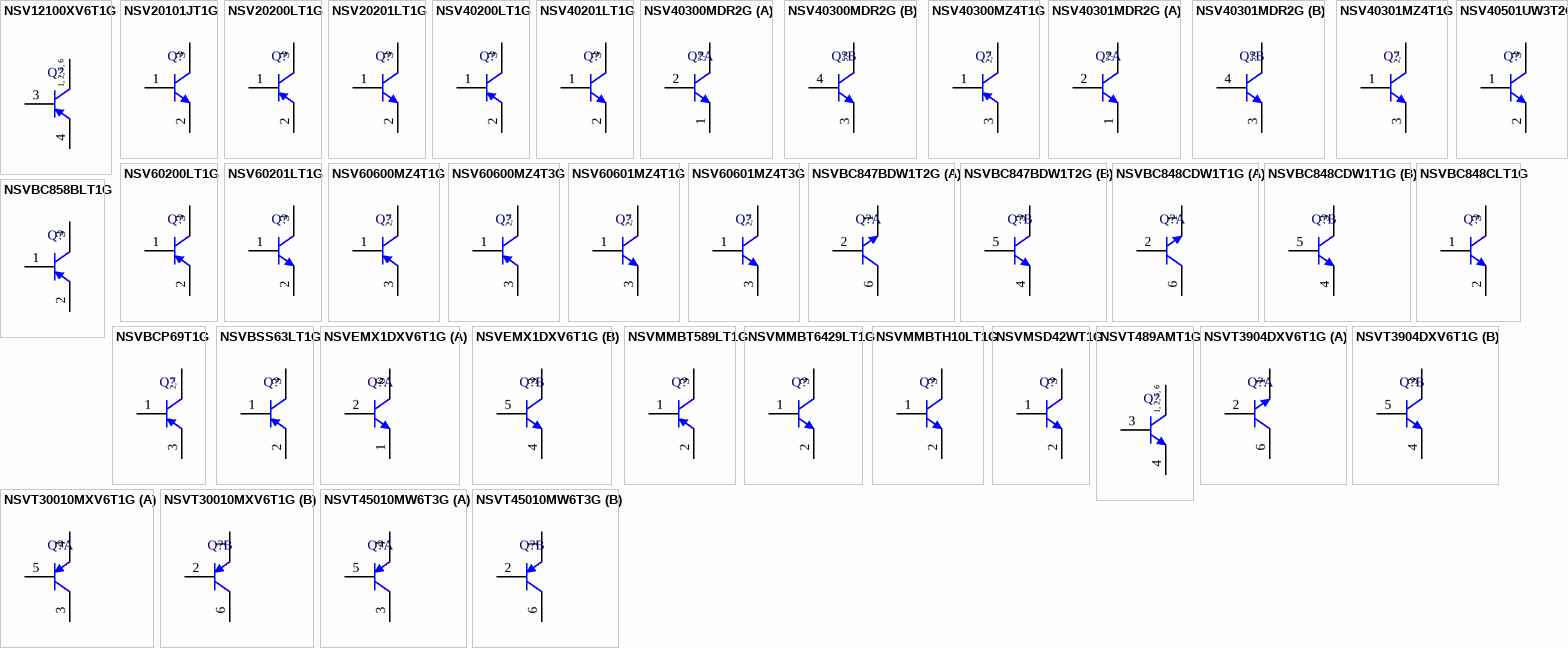
[diagram p38: symbols NSV12100XV6T1G to NSVT45010MW6T3G]

## NSV12100XV6T1G
designator Q?
12 V, 1 A, Low VCE(sat), PNP Transistor, 6-Pin SOT-563, Pb-Free, Tape and Reel; Manufacturer: On Semiconductor; PartNumber: NSV12100XV6T1G; IC Continuous (A): -1; DatasheetVersion: Rev. 0; PackageVersion: Rev. F, 04/2005; PackageReference: SOT-563-6-463A-01; PackageDescription: 6-Pin Small Outline Transistor, Body 1.6 x 1.2 mm, Pitch 0.5 mm; Supplier 1: Newark; Supplier Part Number 1: 72W2312; Supplier 2: Mouser; Supplier Part Number 2: 863-NSV12100XV6T1G; Packing: Tape and Reel; Polarity: PNP; RoHS: TRUE; Mounting Technology: Surface Mount; ComponentLink1Description: Manufacturer URL; ComponentLink1URL: http://www.onsemi.com/; ComponentLink2Description: Datasheet; ComponentLink2URL: http://www.onsemi.cn/pub_link/Collateral/NSS12100XV6-D.PDF; ComponentLink3Description: Package Specification; ComponentLink3URL: http://www.onsemi.cn/pub_link/Collateral/463A-01.PDF
footprint ONSC-SOT-563-6-463A-01_V (SOT23, 6-Leads, Body 1.6x1.2mm, Pitch 0.5mm)
pins: 1 C, 2 C, 3 B, 4 E, 5 C, 6 C
text: 1, 2, 5, 6

## NSV20101JT1G
designator Q?
20 V, 1 A, Low VCE(sat), NPN Transistor, 3-Pin SC-89, Pb-Free, Tape and Reel; Manufacturer: On Semiconductor; PartNumber: NSV20101JT1G; IC Continuous (A): 1; DatasheetVersion: Rev. 3; PackageVersion: Rev. C, 07/2003; PackageReference: SC-89-3-463C-02; PackageDescription: 3-Pin Small Outline Transistor, Body 1.6 x 0.85 mm, Pitch 0.5 mm; Supplier 1: Newark; Supplier Part Number 1: 97W6372; Supplier 2: Mouser; Supplier Part Number 2: 863-NSV20101JT1G; Packing: Tape and Reel; Polarity: NPN; RoHS: TRUE; Mounting Technology: Surface Mount; ComponentLink1Description: Manufacturer URL; ComponentLink1URL: http://www.onsemi.com/; ComponentLink2Description: Datasheet; ComponentLink2URL: http://www.onsemi.com/pub_link/Collateral/NSS20101J-D.PDF; ComponentLink3Description: Package Specification; ComponentLink3URL: http://www.onsemi.com/pub_link/Collateral/463C-02.PDF
footprint ONSC-SC-89-3-463C-02_V (SOT23, 3-Leads, Body 1.6x0.85mm, Pitch 0.5mm)
pins: 1 B, 2 E, 3 C

## NSV20200LT1G
designator Q?
20 V, 4 A, Low VCE(sat), PNP Transistor, 3-Pin SOT-23, Pb-Free, Tape and Reel; Manufacturer: On Semiconductor; PartNumber: NSV20200LT1G; fT Min (MHz): 100; IC Continuous (A): -2; DatasheetVersion: Rev. 4; PackageVersion: Rev. AP, 11/2009; PackageReference: SOT-23-3-318-08; PackageDescription: 3-Pin Small Outline Transistor, Body 2.92 x 1.3 mm, Pitch 0.95 mm; Supplier 1: Digi-Key; Supplier Part Number 1: NSV20200LT1G-ND; Supplier 2: Mouser; Supplier Part Number 2: 863-NSV20200LT1G; Packing: Tape and Reel; Polarity: PNP; RoHS: TRUE; Mounting Technology: Surface Mount; ComponentLink1Description: Manufacturer URL; ComponentLink1URL: http://www.onsemi.com/; ComponentLink2Description: Datasheet; ComponentLink2URL: http://www.onsemi.com/pub_link/Collateral/NSS20200L-D.PDF; ComponentLink3Description: Package Specification; ComponentLink3URL: http://www.onsemi.cn/pub_link/Collateral/318-08.PDF
footprint ONSC-SOT-23-3-318-08_V (SOT23, 3-Leads, Body 2.92x1.3mm, Pitch 0.95mm)
pins: 1 B, 2 E, 3 C